# Altium integrated library FTDI Communication.IntLib: 36 symbols (part 2 of 2)
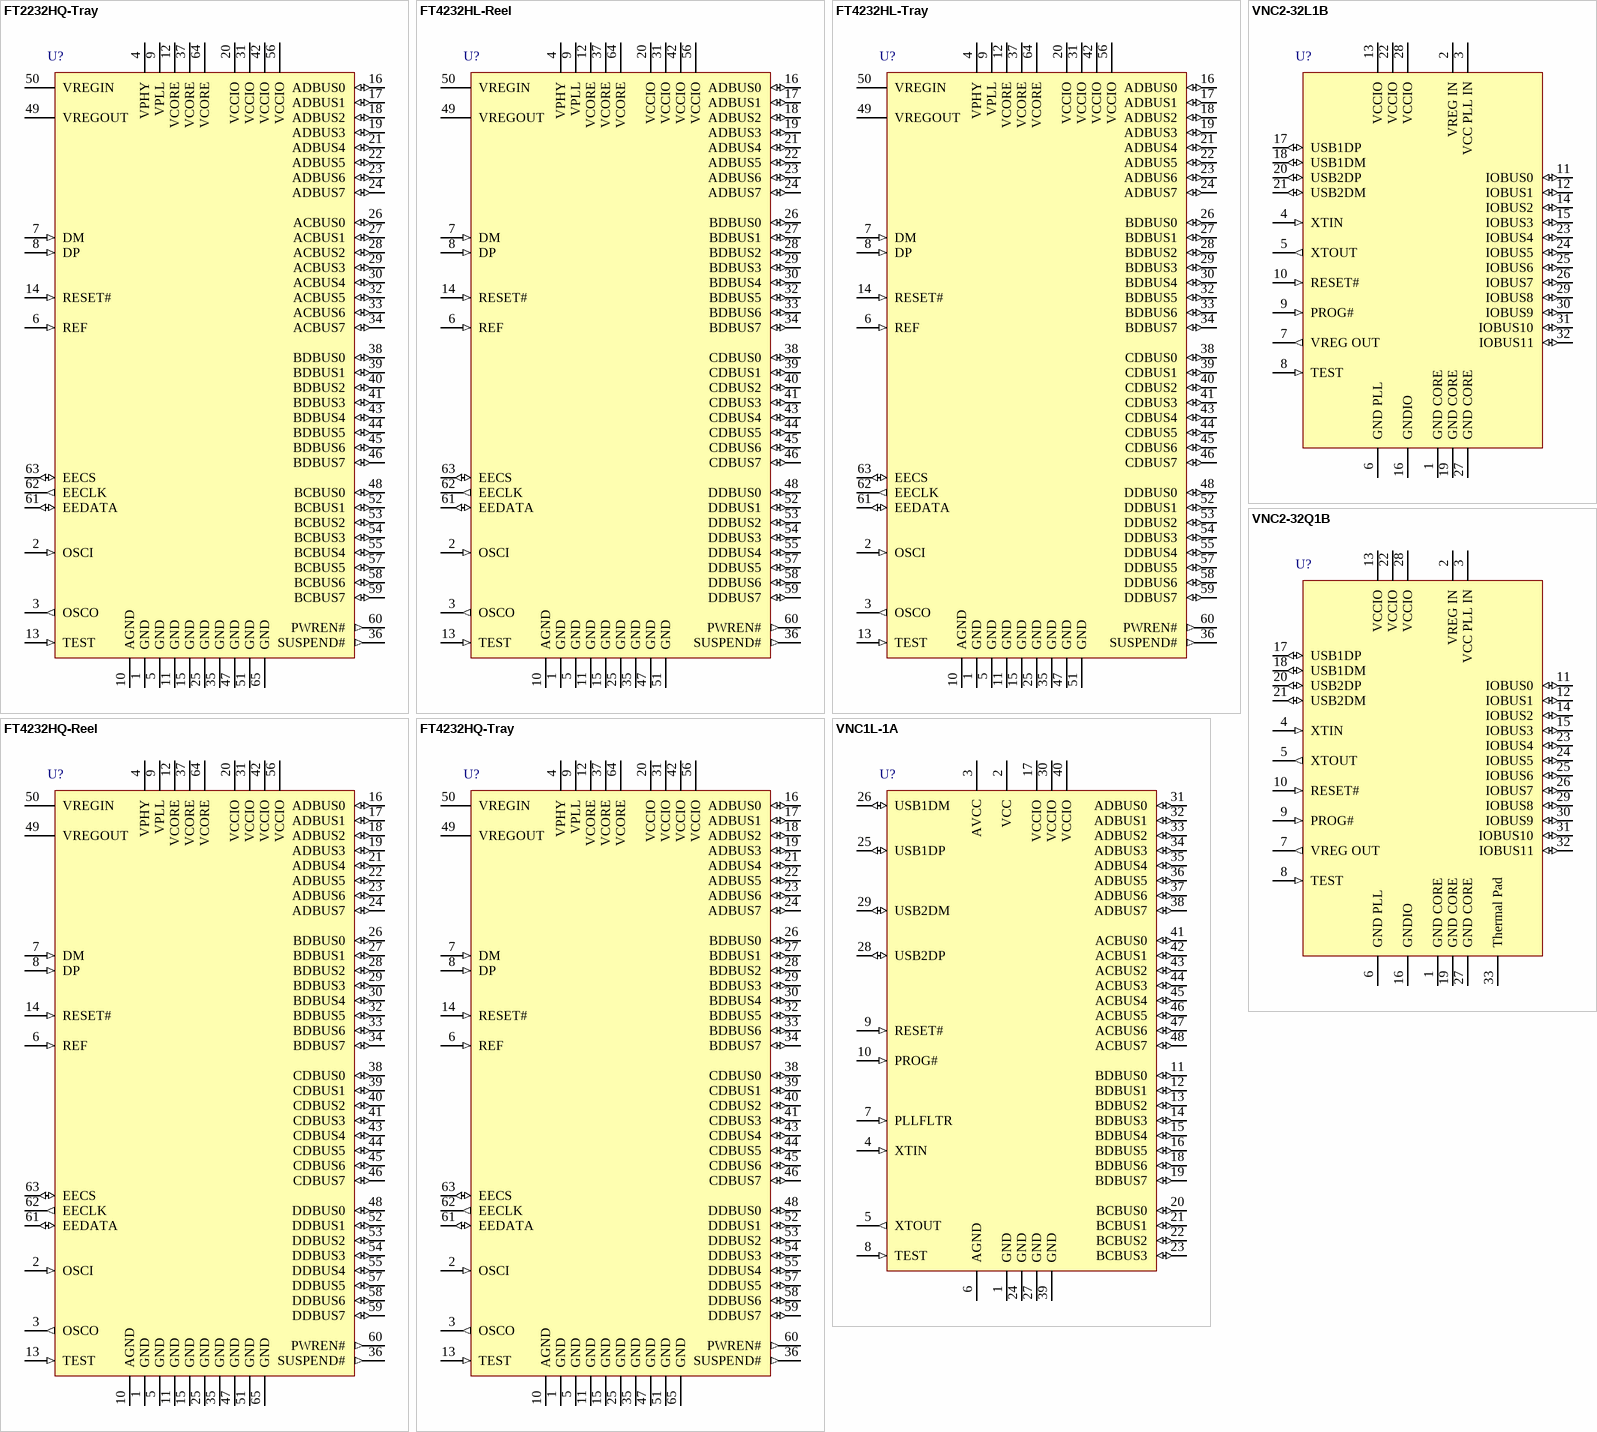
[diagram p4: symbols FT2232HQ-Tray to VNC2-32Q1B]

## VNC2-32Q1B
designator U?
Vinculum-II Embedded Dual USB Host Controller Chip, QFN-32; DatasheetVersion: ver 1.4, Oct-2011; PackageVersion: 2010; PackageReference: QFN7X7-32; PackageDescription: 32-Pin Quad Flat No-Lead 0.65 mm Pitch, 4.7 x 4.7 mm Exposed Pad; ComponentLink1Description: Manufacturer URL; ComponentLink1URL: http://www.ftdichip.com/; ComponentLink2Description: Datasheet; ComponentLink2URL: http://www.ftdichip.com/Support/Documents/DataSheets/ICs/DS_Vinculum-II.pdf
footprint QFN7X7-32_N (QFN, 32-Leads, Body 7x7mm, Pitch 0.65mm, Thermal Pad 4.8x4.8mm, IPC Medium Density)
footprint QFN7X7-32_L (QFN, 32-Leads, Body 7x7mm, Pitch 0.65mm, Thermal Pad 4.8x4.8mm, IPC High Density)
footprint QFN7X7-32_M (QFN, 32-Leads, Body 7x7mm, Pitch 0.65mm, Thermal Pad 4.8x4.8mm, IPC Low Density)
pins: 1 GND CORE (power), 2 VREG IN (power), 3 VCC PLL IN (power), 4 XTIN (in), 5 XTOUT (out), 6 GND PLL (power), 7 VREG OUT (out), 8 TEST (in), 9 PROG# (in), 10 RESET# (in), 11 IOBUS0 (io), 12 IOBUS1 (io), 13 VCCIO (power), 14 IOBUS2 (io), 15 IOBUS3 (io), 16 GNDIO (power), 17 USB1DP (io), 18 USB1DM (io), 19 GND CORE (power), 20 USB2DP (io), 21 USB2DM (io), 22 VCCIO (power), 23 IOBUS4 (io), 24 IOBUS5 (io), 25 IOBUS6 (io), 26 IOBUS7 (io), 27 GND CORE (power), 28 VCCIO (power), 29 IOBUS8 (io), 30 IOBUS9 (io), 31 IOBUS10 (io), 32 IOBUS11 (io), 33 Thermal Pad

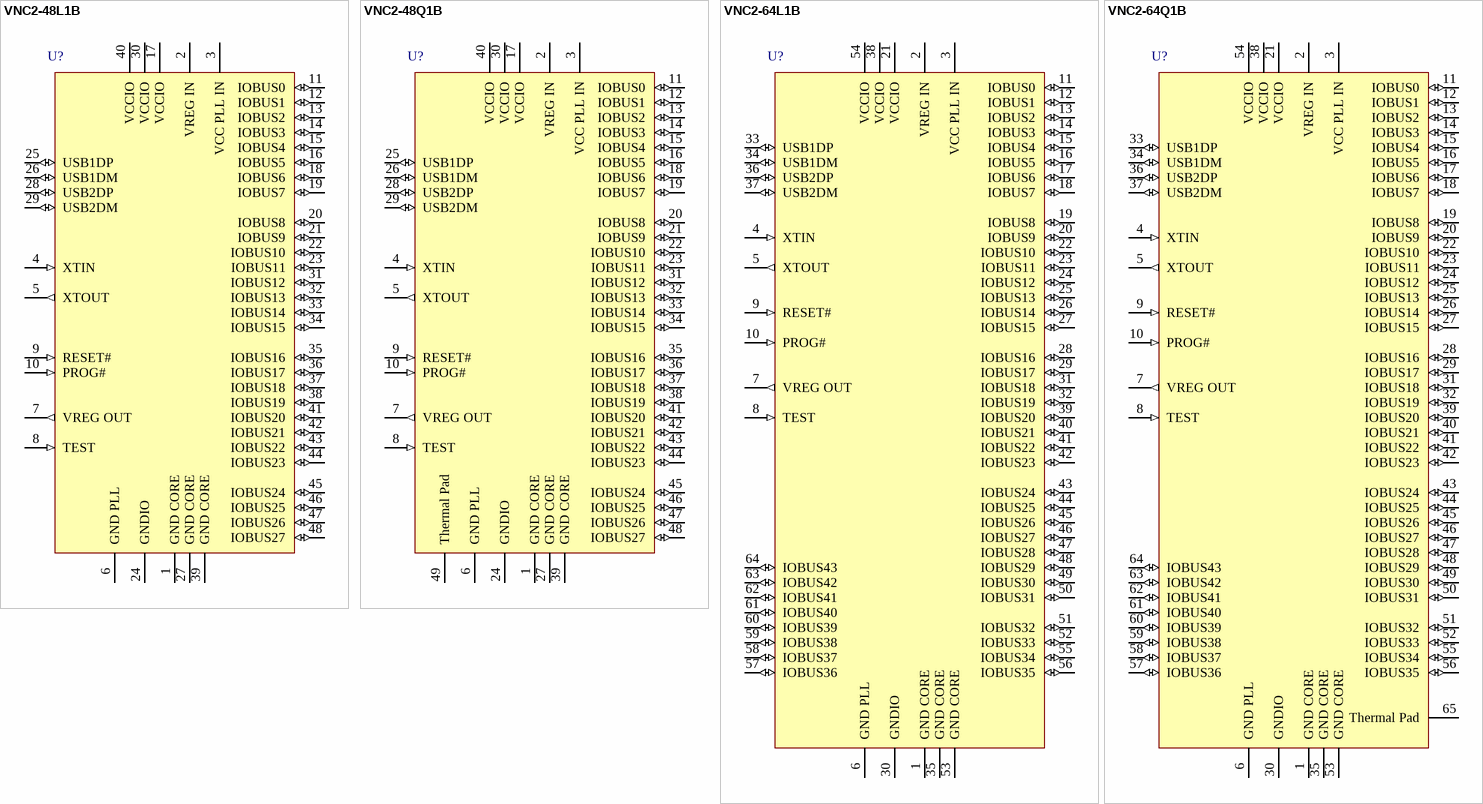
[diagram p3: symbols VNC2-48L1B to VNC2-64Q1B]

## VNC2-48L1B
designator U?
Vinculum-II Embedded Dual USB Host Controller Chip, LQFP-48; DatasheetVersion: ver 1.4, Oct-2011; PackageVersion: 2010; PackageReference: LQFP-48; PackageDescription: 48-Pin Thin Quad Flat Pack 0.5 mm Pitch; ComponentLink1Description: Manufacturer URL; ComponentLink1URL: http://www.ftdichip.com/; ComponentLink2Description: Datasheet; ComponentLink2URL: http://www.ftdichip.com/Support/Documents/DataSheets/ICs/DS_Vinculum-II.pdf
footprint LQFP-48_N (Thin QFP, 48-Leads, Body 7x7mm, Pitch 0.5mm, IPC Medium Density)
footprint LQFP-48_L (Thin QFP, 48-Leads, Body 7x7mm, Pitch 0.5mm, IPC High Density)
footprint LQFP-48_M (Thin QFP, 48-Leads, Body 7x7mm, Pitch 0.5mm, IPC Low Density)
pins: 1 GND CORE (power), 2 VREG IN (power), 3 VCC PLL IN (power), 4 XTIN (in), 5 XTOUT (out), 6 GND PLL (power), 7 VREG OUT (out), 8 TEST (in), 9 RESET# (in), 10 PROG# (in), 11 IOBUS0 (io), 12 IOBUS1 (io), 13 IOBUS2 (io), 14 IOBUS3 (io), 15 IOBUS4 (io), 16 IOBUS5 (io), 17 VCCIO (power), 18 IOBUS6 (io), 19 IOBUS7 (io), 20 IOBUS8 (io), 21 IOBUS9 (io), 22 IOBUS10 (io), 23 IOBUS11 (io), 24 GNDIO (power), 25 USB1DP (io), 26 USB1DM (io), 27 GND CORE (power), 28 USB2DP (io), 29 USB2DM (io), 30 VCCIO (power), 31 IOBUS12 (io), 32 IOBUS13 (io), 33 IOBUS14 (io), 34 IOBUS15 (io), 35 IOBUS16 (io), 36 IOBUS17 (io), 37 IOBUS18 (io), 38 IOBUS19 (io), 39 GND CORE (power), 40 VCCIO (power), 41 IOBUS20 (io), 42 IOBUS21 (io), 43 IOBUS22 (io), 44 IOBUS23 (io), 45 IOBUS24 (io), 46 IOBUS25 (io), 47 IOBUS26 (io), 48 IOBUS27 (io)

## VNC2-48Q1B
designator U?
Vinculum-II Embedded Dual USB Host Controller Chip, QFN-48; DatasheetVersion: ver 1.4, Oct-2011; PackageVersion: 2010; PackageReference: QFN48; PackageDescription: 48-Pin Quad Flat No-Lead 0.5 mm Pitch, 6.2 x 6.2 mm Exposed Pad; ComponentLink1Description: Manufacturer URL; ComponentLink1URL: http://www.ftdichip.com/; ComponentLink2Description: Datasheet; ComponentLink2URL: http://www.ftdichip.com/Support/Documents/DataSheets/ICs/DS_Vinculum-II.pdf
footprint QFN48_N (QFN, 48-Leads, Body 8x8mm, Pitch 0.5mm, Thermal Pad 6.3x6.3mm, IPC Medium Density)
footprint QFN48_L (QFN, 48-Leads, Body 8x8mm, Pitch 0.5mm, Thermal Pad 6.3x6.3mm, IPC High Density)
footprint QFN48_M (QFN, 48-Leads, Body 8x8mm, Pitch 0.5mm, Thermal Pad 6.3x6.3mm, IPC Low Density)
pins: 1 GND CORE (power), 2 VREG IN (power), 3 VCC PLL IN (power), 4 XTIN (in), 5 XTOUT (out), 6 GND PLL (power), 7 VREG OUT (out), 8 TEST (in), 9 RESET# (in), 10 PROG# (in), 11 IOBUS0 (io), 12 IOBUS1 (io), 13 IOBUS2 (io), 14 IOBUS3 (io), 15 IOBUS4 (io), 16 IOBUS5 (io), 17 VCCIO (power), 18 IOBUS6 (io), 19 IOBUS7 (io), 20 IOBUS8 (io), 21 IOBUS9 (io), 22 IOBUS10 (io), 23 IOBUS11 (io), 24 GNDIO (power), 25 USB1DP (io), 26 USB1DM (io), 27 GND CORE (power), 28 USB2DP (io), 29 USB2DM (io), 30 VCCIO (power), 31 IOBUS12 (io), 32 IOBUS13 (io), 33 IOBUS14 (io), 34 IOBUS15 (io), 35 IOBUS16 (io), 36 IOBUS17 (io), 37 IOBUS18 (io), 38 IOBUS19 (io), 39 GND CORE (power), 40 VCCIO (power), 41 IOBUS20 (io), 42 IOBUS21 (io), 43 IOBUS22 (io), 44 IOBUS23 (io), 45 IOBUS24 (io), 46 IOBUS25 (io), 47 IOBUS26 (io), 48 IOBUS27 (io), 49 Thermal Pad

## VNC2-64L1B
designator U?
Vinculum-II Embedded Dual USB Host Controller Chip, LQFP-64; DatasheetVersion: ver 1.4, Oct-2011; PackageVersion: 2010; PackageReference: LQFP-64; PackageDescription: 64-Pin Thin Quad Flat Pack, 10 x 10 x 1.4 mm Body, 0.5 mm Pitch; ComponentLink1Description: Manufacturer URL; ComponentLink1URL: http://www.ftdichip.com/; ComponentLink2Description: Datasheet; ComponentLink2URL: http://www.ftdichip.com/Support/Documents/DataSheets/ICs/DS_Vinculum-II.pdf
footprint LQFP-64_N (Thin QFP, 64-Leads, Body 10x10mm, Pitch 0.5mm, IPC Medium Density)
footprint LQFP-64_L (Thin QFP, 64-Leads, Body 10x10mm, Pitch 0.5mm, IPC High Density)
footprint LQFP-64_M (Thin QFP, 64-Leads, Body 10x10mm, Pitch 0.5mm, IPC Low Density)
pins: 1 GND CORE (power), 2 VREG IN (power), 3 VCC PLL IN (power), 4 XTIN (in), 5 XTOUT (out), 6 GND PLL (power), 7 VREG OUT (out), 8 TEST (in), 9 RESET# (in), 10 PROG# (in), 11 IOBUS0 (io), 12 IOBUS1 (io), 13 IOBUS2 (io), 14 IOBUS3 (io), 15 IOBUS4 (io), 16 IOBUS5 (io), 17 IOBUS6 (io), 18 IOBUS7 (io), 19 IOBUS8 (io), 20 IOBUS9 (io), 21 VCCIO (power), 22 IOBUS10 (io), 23 IOBUS11 (io), 24 IOBUS12 (io), 25 IOBUS13 (io), 26 IOBUS14 (io), 27 IOBUS15 (io), 28 IOBUS16 (io), 29 IOBUS17 (io), 30 GNDIO (power), 31 IOBUS18 (io), 32 IOBUS19 (io), 33 USB1DP (io), 34 USB1DM (io), 35 GND CORE (power), 36 USB2DP (io), 37 USB2DM (io), 38 VCCIO (power), 39 IOBUS20 (io), 40 IOBUS21 (io), 41 IOBUS22 (io), 42 IOBUS23 (io), 43 IOBUS24 (io), 44 IOBUS25 (io), 45 IOBUS26 (io), 46 IOBUS27 (io), 47 IOBUS28 (io), 48 IOBUS29 (io), 49 IOBUS30 (io), 50 IOBUS31 (io), 51 IOBUS32 (io), 52 IOBUS33 (io), 53 GND CORE (power), 54 VCCIO (power), 55 IOBUS34 (io), 56 IOBUS35 (io), 57 IOBUS36 (io), 58 IOBUS37 (io), 59 IOBUS38 (io), 60 IOBUS39 (io), 61 IOBUS40 (io), 62 IOBUS41 (io), 63 IOBUS42 (io), 64 IOBUS43 (io)

## VNC2-64Q1B
designator U?
Vinculum-II Embedded Dual USB Host Controller Chip, QFN-64; DatasheetVersion: ver 1.4, Oct-2011; PackageVersion: 2010; PackageReference: QFN64; PackageDescription: 64-Pin Quad Flat No-Lead 0.4 mm Pitch, 6.2 x 6.2 mm Exposed Pad; ComponentLink1Description: Manufacturer URL; ComponentLink1URL: http://www.ftdichip.com/; ComponentLink2Description: Datasheet; ComponentLink2URL: http://www.ftdichip.com/Support/Documents/DataSheets/ICs/DS_Vinculum-II.pdf
footprint QFN64_N (QFN, 64-Leads, Body 8x8mm, Pitch 0.4mm, Thermal Pad 6.3x6.3mm, IPC Medium Density)
footprint QFN64_L (QFN, 64-Leads, Body 8x8mm, Pitch 0.4mm, Thermal Pad 6.3x6.3mm, IPC High Density)
footprint QFN64_M (QFN, 64-Leads, Body 8x8mm, Pitch 0.4mm, Thermal Pad 6.3x6.3mm, IPC Low Density)
pins: 1 GND CORE (power), 2 VREG IN (power), 3 VCC PLL IN (power), 4 XTIN (in), 5 XTOUT (out), 6 GND PLL (power), 7 VREG OUT (out), 8 TEST (in), 9 RESET# (in), 10 PROG# (in), 11 IOBUS0 (io), 12 IOBUS1 (io), 13 IOBUS2 (io), 14 IOBUS3 (io), 15 IOBUS4 (io), 16 IOBUS5 (io), 17 IOBUS6 (io), 18 IOBUS7 (io), 19 IOBUS8 (io), 20 IOBUS9 (io), 21 VCCIO (power), 22 IOBUS10 (io), 23 IOBUS11 (io), 24 IOBUS12 (io), 25 IOBUS13 (io), 26 IOBUS14 (io), 27 IOBUS15 (io), 28 IOBUS16 (io), 29 IOBUS17 (io), 30 GNDIO (power), 31 IOBUS18 (io), 32 IOBUS19 (io), 33 USB1DP (io), 34 USB1DM (io), 35 GND CORE (power), 36 USB2DP (io), 37 USB2DM (io), 38 VCCIO (power), 39 IOBUS20 (io), 40 IOBUS21 (io), 41 IOBUS22 (io), 42 IOBUS23 (io), 43 IOBUS24 (io), 44 IOBUS25 (io), 45 IOBUS26 (io), 46 IOBUS27 (io), 47 IOBUS28 (io), 48 IOBUS29 (io), 49 IOBUS30 (io), 50 IOBUS31 (io), 51 IOBUS32 (io), 52 IOBUS33 (io), 53 GND CORE (power), 54 VCCIO (power), 55 IOBUS34 (io), 56 IOBUS35 (io), 57 IOBUS36 (io), 58 IOBUS37 (io), 59 IOBUS38 (io), 60 IOBUS39 (io), 61 IOBUS40 (io), 62 IOBUS41 (io), 63 IOBUS42 (io), 64 IOBUS43 (io), 65 Thermal Pad